# Altium footprint library Sensor.PcbLib: 73 footprints (part 4 of 5)
Each footprint in its own frame and in the unit in brackets; x right, y up, seen from the top. Pads: shape width x height; smd on the part's side, far side on the other; paste and mask are expansions set on the pad; w line width, h text height; cw(c..) or ccw(c..) is an arc to the next point about the centre after c.
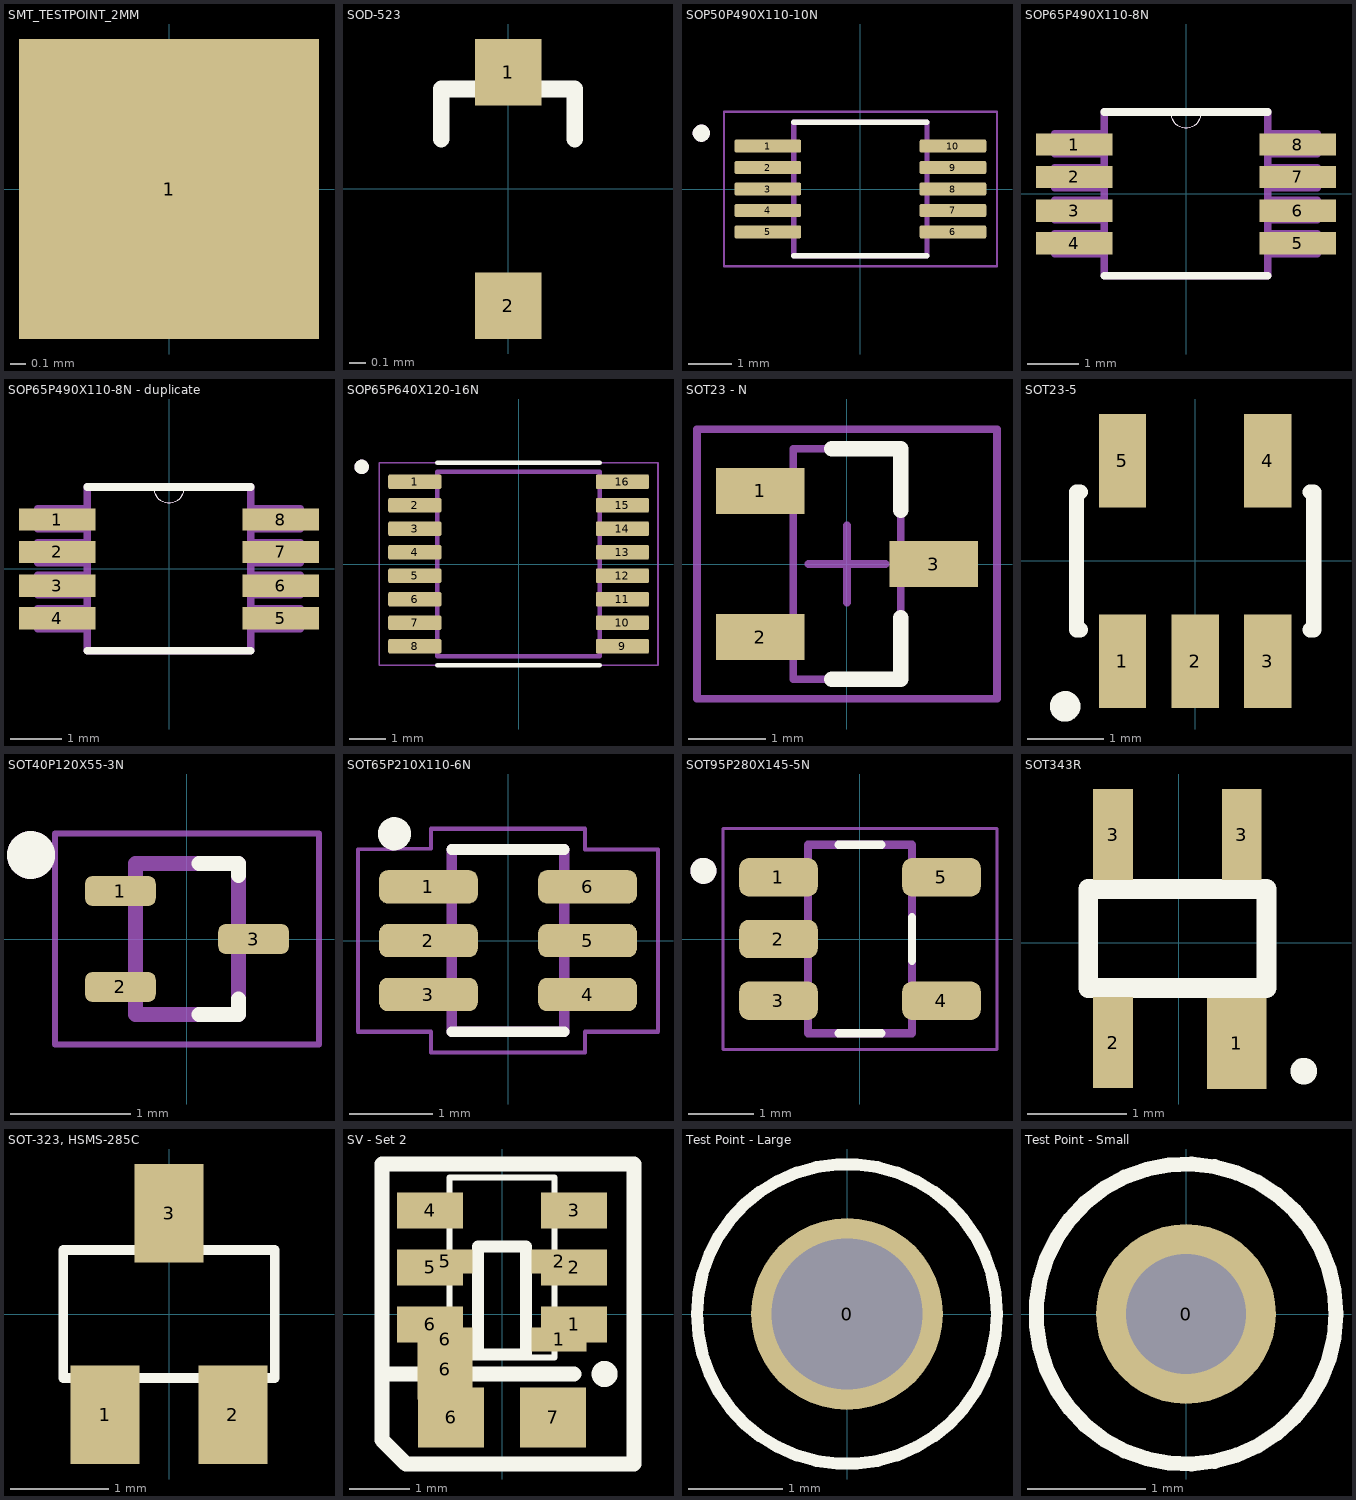
[diagram p3: the footprints below, top view; thin cyan lines are the x and y axes]

## SMT_TESTPOINT_2MM [mm]
pads (1):
  rect 2x2 smd: 1(0,0)

## SOD-523 [mm] "SOD-523 Footprint"
height 1
pads (2):
  rect 0.4x0.4 smd: 1(0,0.7) 2(0,-0.7)
Top Overlay:
  lines w0.1: -0.401,0.3 -0.401,0.6 0.399,0.6 0.399,0.3
Mechanical 13:
  text ".Designator" at -0.15,0.425 h0.25
3D body: height 1, standoff 0, extent -0.4,-0.6 0.4,0.6

## SOP50P490X110-10N [mm]
pads (10):
  rrect25% 1.55x0.3 smd: 1(-2.155,1) 2(-2.155,0.5) 3(-2.155,0) 4(-2.155,-0.5) 5(-2.155,-1) 6(2.155,-1) 7(2.155,-0.5) 8(2.155,0) 9(2.155,0.5) 10(2.155,1)
Top Overlay:
  circle w0.2: c-3.705,1.3 r0.1
  lines w0.127: -1.55,-1.55 1.55,-1.55 ; -1.55,1.55 1.55,1.55
Mechanical 13:
  circle w0.2: c-3.705,1.3 r0.1
  lines w0.127: -1.55,-1.55 1.55,-1.55 1.55,1.55 -1.55,1.55 -1.55,-1.55
Mechanical 15:
  lines w0.05: -3.18,-1.8 3.18,-1.8 3.18,1.8 -3.18,1.8 -3.18,-1.8

## SOP65P490X110-8N [mil]
pads (8):
  rect 59x17 smd: 1(-86,38) 2(-86,13) 3(-86,-13) 4(-86,-38) 5(86,-38) 6(86,-13) 7(86,13) 8(86,38)
Top Overlay:
  lines w0: -12,63 ccw(c0,63) 12,63
  lines w6: -63,-63 63,-63 ; -63,63 -12,63 12,63 63,63
Mechanical 13:
  lines w0: -12,63 ccw(c0,63) 12,63
  lines w6: -101,-46 -101,-31 -63,-31 -63,-46 -101,-46 ; -101,-20 -101,-5 -63,-5 -63,-20 -101,-20 ; -101,5 -101,20 -63,20 -63,5 -101,5 ; -101,31 -101,46 -63,46 -63,31 -101,31 ; -63,-63 63,-63 63,63 12,63 -12,63 -63,63 -63,-63 ; 63,-46 63,-31 101,-31 101,-46 63,-46 ; 63,-20 63,-5 101,-5 101,-20 63,-20 ; 63,5 63,20 101,20 101,5 63,5 ; 63,31 63,46 101,46 101,31 63,31

## SOP65P490X110-8N - duplicate [mil]
pads (8):
  rect 59x17 smd: 1(-86,38) 2(-86,13) 3(-86,-13) 4(-86,-38) 5(86,-38) 6(86,-13) 7(86,13) 8(86,38)
Top Overlay:
  lines w0: -12,63 ccw(c0,63) 12,63
  lines w6: -63,-63 63,-63 ; -63,63 -12,63 12,63 63,63
Mechanical 13:
  lines w0: -12,63 ccw(c0,63) 12,63
  lines w6: -101,-46 -63,-46 -63,-31 -101,-31 -101,-46 ; -101,-20 -63,-20 -63,-5 -101,-5 -101,-20 ; -101,5 -63,5 -63,20 -101,20 -101,5 ; -101,31 -63,31 -63,46 -101,46 -101,31 ; -63,-63 -63,63 -12,63 12,63 63,63 63,-63 -63,-63 ; 63,-46 101,-46 101,-31 63,-31 63,-46 ; 63,-20 101,-20 101,-5 63,-5 63,-20 ; 63,5 101,5 101,20 63,20 63,5 ; 63,31 101,31 101,46 63,46 63,31

## SOP65P640X120-16N [mm]
pads (16):
  rrect25% 1.47x0.41 smd: 1(-2.87,2.275) 2(-2.87,1.625) 3(-2.87,0.975) 4(-2.87,0.325) 5(-2.87,-0.325) 6(-2.87,-0.975) 7(-2.87,-1.625) 8(-2.87,-2.275) 9(2.87,-2.275) 10(2.87,-1.625) 11(2.87,-0.975) 12(2.87,-0.325) 13(2.87,0.325) 14(2.87,0.975) 15(2.87,1.625) 16(2.87,2.275)
Top Overlay:
  circle w0.2: c-4.34,2.685 r0.1
  lines w0.127: -2.25,-2.8 2.25,-2.8 ; -2.25,2.8 2.25,2.8
Mechanical 13:
  circle w0.2: c-4.34,2.685 r0.1
  lines w0.127: -2.25,-2.55 2.25,-2.55 2.25,2.55 -2.25,2.55 -2.25,-2.55
Mechanical 15:
  lines w0.05: -3.855,-2.8 3.855,-2.8 3.855,2.8 -3.855,2.8 -3.855,-2.8

## SOT23 - N [mm] "SOT23, 3-Leads, Body 2.9x1.3mm, Pitch 0.95mm, Lead Span 2.3mm - Reverse Pinning, IPC Medium Density"
height 1.1
pads (3):
  rect 1.15x0.6 smd: 1(-1.125,0.95) 2(-1.125,-0.95) 3(1.125,0)
Top Overlay:
  lines w0.2: -0.2,-1.5 0.7,-1.5 0.7,-0.7 ; -0.2,1.5 0.7,1.5 0.7,0.7
Mechanical 13:
  lines w0.1: -0.7,-1.5 0.7,-1.5 0.7,1.5 -0.7,1.5 -0.7,-1.5
Mechanical 15:
  lines w0.1: -0.5,0 0.5,0 ; 0,-0.5 0,0.5 ; -1.95,-1.75 1.95,-1.75 1.95,1.75 -1.95,1.75 -1.95,-1.75
3D body: height 1.1, standoff 0, extent -0.7,-1.5 0.7,1.5

## SOT23-5 [mm] "SOT23-5"
height 1.27
pads (5):
  rect 0.62x1.22 smd: 1(-0.95,-1.31) 2(0,-1.31) 3(0.95,-1.31) 4(0.95,1.31) 5(-0.95,1.31)
Top Overlay:
  circle w0.2: c-1.7,-1.9 r0.1
  lines w0.2: -1.5,-0.9 -1.55,-0.9 -1.55,0.9 -1.5,0.9 ; 1.5,-0.9 1.55,-0.9 1.55,0.9 1.5,0.9
Mechanical 13:
  text ".Designator" at -1.25,-0.375 h0.38
3D body: height 1, standoff 0, extent -1.55,-0.9 1.55,0.9

## SOT40P120X55-3N [mm]
pads (3):
  rrect50% 0.59x0.25 smd: 1(-0.555,0.4) 2(-0.555,-0.4) 3(0.555,0)
Top Overlay:
  circle w0.2: c-1.3,0.7 r0.1
  lines w0.127: 0.1,-0.63 0.43,-0.63 0.43,-0.5 ; 0.1,0.63 0.43,0.63 0.43,0.53
Mechanical 13:
  circle w0.2: c-1.3,0.7 r0.1
  lines w0.127: -0.43,-0.63 0.43,-0.63 0.43,0.63 -0.43,0.63 -0.43,-0.63
Mechanical 15:
  lines w0.05: -1.1,-0.88 1.1,-0.88 1.1,0.88 -1.1,0.88 -1.1,-0.88
3D body "step_temp.STEP": height 0.55, standoff 0, extent -0.6,-0.6 0.6,0.6

## SOT65P210X110-6N [mm]
pads (6):
  rrect50% 1.19x0.4 smd: 1(-0.96,0.65) 2(-0.96,0) 3(-0.96,-0.65) 4(0.96,-0.65) 5(0.96,0) 6(0.96,0.65)
Top Overlay:
  circle w0.2: c-1.37,1.29 r0.1
  lines w0.127: -0.68,-1.1 0.68,-1.1 ; -0.68,1.1 0.68,1.1
Mechanical 13:
  lines w0.127: -0.68,-1.1 0.68,-1.1 0.68,1.1 -0.68,1.1 -0.68,-1.1
Mechanical 15:
  lines w0.05: -1.81,-1.1 -1.81,1.1 -0.93,1.11 -0.93,1.35 0.93,1.35 0.93,1.1 1.81,1.1 1.81,-1.1 0.93,-1.1 0.93,-1.35 -0.93,-1.35 -0.93,-1.1 -1.81,-1.1

## SOT95P280X145-5N [mm]
pads (5):
  rrect50% 1.21x0.59 smd: 1(-1.255,0.95) 2(-1.255,0) 3(-1.255,-0.95) 4(1.255,-0.95) 5(1.255,0.95)
Top Overlay:
  circle w0.2: c-2.41,1.05 r0.1
  lines w0.127: -0.33,-1.45 0.33,-1.45 ; -0.33,1.45 0.33,1.45 ; 0.8,-0.335 0.8,0.335
Mechanical 13:
  circle w0.2: c-2.41,1.05 r0.1
  lines w0.127: -0.8,-1.45 0.8,-1.45 0.8,1.45 -0.8,1.45 -0.8,-1.45
Mechanical 15:
  lines w0.05: -2.11,-1.7 -2.11,1.7 2.11,1.7 2.11,-1.7 -2.11,-1.7

## SOT343R [mm] "SOT343R - Package for BF1101WR"
height 1.1
pads (4):
  rect 0.6x0.92 smd: 1(0.584,-1.016)
  rect 0.4x0.92 smd: 2(-0.664,-1.007) 3(-0.664,1.093) 3(0.636,1.093)
Top Overlay:
  circle w0.254: c1.262,-1.295 r0.008
  lines w0.2: -0.914,-0.457 0.886,-0.457 0.886,0.543 -0.914,0.543 -0.914,-0.457

## SOT-323, HSMS-285C [mm] "SOT-323/SC-70; 3 Leads; HSMS-285C"
height 1
pads (3):
  rect 0.7x1 smd: 1(-0.65,-1.025) 2(0.65,-1.025) 3(0,1.025)
Top Overlay:
  lines w0.1: -1.075,-0.65 -1.075,0.65 1.075,0.65 1.075,-0.65 -1.075,-0.65
Mechanical 13:
  text ".Designator" at -0.9,-0.275 h0.38
3D body: height 1, standoff 0, extent -1.075,-0.65 1.075,0.65

## SV - Set 2 [mm] "S-1000 (SOT-23-5, SC-82);  S1009 (SOT-23-5);  XC61C (SC-82, SOT-23);  NCP300 (SOT-23-5)"
pads (13):
  rect 0.92x0.4 smd: 1(0.95,-0.425) 2(0.95,0.875) 5(-0.95,0.875) 6(-0.95,-0.425)
  rect 1.1x0.6 smd: 1(1.2,-0.175) 2(1.2,0.775) 3(1.2,1.725) 4(-1.2,1.725) 5(-1.2,0.775) 6(-1.2,-0.175)
  rect 0.92x1 smd: 6(-0.95,-0.925)
  rect 1.1x1 smd: 6(-0.85,-1.725) 7(0.85,-1.725)
Top Overlay:
  circle w0.254: c1.71,-1 r0.09
  lines w0.1: -0.875,-0.725 -0.875,2.275 0.875,2.275 0.875,-0.725 -0.875,-0.725
  lines w0.2: 0.4,-0.675 -0.4,-0.675 -0.4,1.125 0.4,1.125 0.4,-0.675
  lines w0.254: -2,-1 1.2,-1 ; -2,-2.1 -2,2.5 2.2,2.5 2.2,-2.5 -1.6,-2.5 -2,-2.1

## Test Point - Large [mil] "Test Point, 63mil hole, example DK: 5012K-ND"
pads (1):
  round 80 hole 63: 0(0,0)
Top Overlay:
  circle w5: c0,0 r62.5

## Test Point - Small [mil] "Test Point, 40mil hole, example DK: 5000K-ND"
pads (1):
  round 60 hole 40: 0(0,0)
Top Overlay:
  circle w5: c0,0 r50